# Altium schematic symbol library RC0201FR-1310KL.SchLib: 1 symbol
Pins are listed as number, name and electrical type; pins without a type are passive.

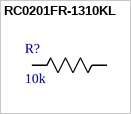
[diagram p0: symbol RC0201FR-1310KL]

## RC0201FR-1310KL
designator R?, comment 10k
YAGEO, RT, Thin Film, SMD Chip, 10k Ohms, 1%, 0603 / 1608; Manufacturer_Part_Number: RC0201FR-1310KL; Copyright: Copyright (C) 2025 Ultra Librarian. All rights reserved.; Manufacturer_Name: YAGEO
footprint RC0603N_PAN
pins: 1, 2